# Altium footprint library Buzzer_Pcb.PcbLib: 2 footprints
Each footprint in its own frame and in the unit in brackets; x right, y up, seen from the top. Pads: shape width x height; smd on the part's side, far side on the other; paste and mask are expansions set on the pad; w line width, h text height; cw(c..) or ccw(c..) is an arc to the next point about the centre after c.
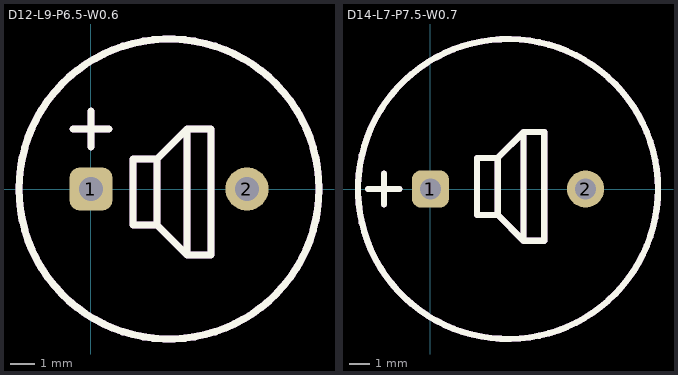
[diagram p0: the footprints below, top view; thin cyan lines are the x and y axes]

## D12-L9-P6.5-W0.6 [mm]
pads (2):
  rrect50% 1.8x1.8 hole 1: 1(0,0)
  round 1.8 hole 1: 2(6.5,0)
Top Overlay:
  circle w0.3: c3.25,0 r6.25
  lines w0.3: -0.75,2.5 0.75,2.5 ; 0,1.75 0,3.25 ; 2.75,-1.5 4,-2.75 ; 2.75,-1.5 1.75,-1.5 1.75,1.25 2.75,1.25 ; 2.75,-1.5 2.75,1.25 ; 2.75,1.25 4,2.5 ; 4,-2.75 5,-2.75 5,2.5 4,2.5 ; 4,-2.75 4,2.5
Mechanical 13:
  circle w0.3: c3.25,0 r6.25
  lines w0.3: -0.75,2.5 0.75,2.5 ; 0,1.75 0,3.25 ; 2.75,-1.5 4,-2.75 ; 2.75,-1.5 1.75,-1.5 1.75,1.25 2.75,1.25 ; 2.75,-1.5 2.75,1.25 ; 2.75,1.25 4,2.5 ; 4,-2.75 5,-2.75 5,2.5 4,2.5 ; 4,-2.75 4,2.5
  text ".Designator" at 1.15,-5.071 h1.5
Mechanical 15:
  circle w0.3: c3.25,0 r6.25
3D body "Buzzer D12-P5.step": height 6.51, standoff -2.99, extent -2.85,-6.1 9.35,6.1

## D14-L7-P7.5-W0.7 [mm]
pads (2):
  rrect50% 1.8x1.8 hole 1: 1(0,0)
  round 1.8 hole 1: 2(7.5,0)
Top Overlay:
  circle w0.3: c3.75,0 r7.25
  lines w0.3: -3,0 -1.5,0 ; -2.25,-0.75 -2.25,0.75 ; 3.25,-1.25 4.5,-2.5 ; 3.25,-1.25 2.25,-1.25 2.25,1.5 3.25,1.5 ; 3.25,-1.25 3.25,1.5 ; 3.25,1.5 4.5,2.75 ; 4.5,-2.5 5.5,-2.5 5.5,2.75 4.5,2.75 ; 4.5,-2.5 4.5,2.75
Mechanical 13:
  circle w0.3: c3.75,0 r7.25
  lines w0.3: -3,0 -1.5,0 ; -2.25,-0.75 -2.25,0.75 ; 3.25,-1.25 4.5,-2.5 ; 3.25,-1.25 2.25,-1.25 2.25,1.5 3.25,1.5 ; 3.25,-1.25 3.25,1.5 ; 3.25,1.5 4.5,2.75 ; 4.5,-2.5 5.5,-2.5 5.5,2.75 4.5,2.75 ; 4.5,-2.5 4.5,2.75
  text ".Designator" at 0.15,-5.321 h1.5
Mechanical 15:
  circle w0.3: c3.75,0 r7.25
3D body "buzzer D14-P7.5.step": height 7.59, standoff -5.5, extent -3.095,-6.845 10.595,6.845